# Altium schematic symbol library Diodes.SchLib: 14 symbols
Pins are listed as number, name and electrical type; pins without a type are passive.

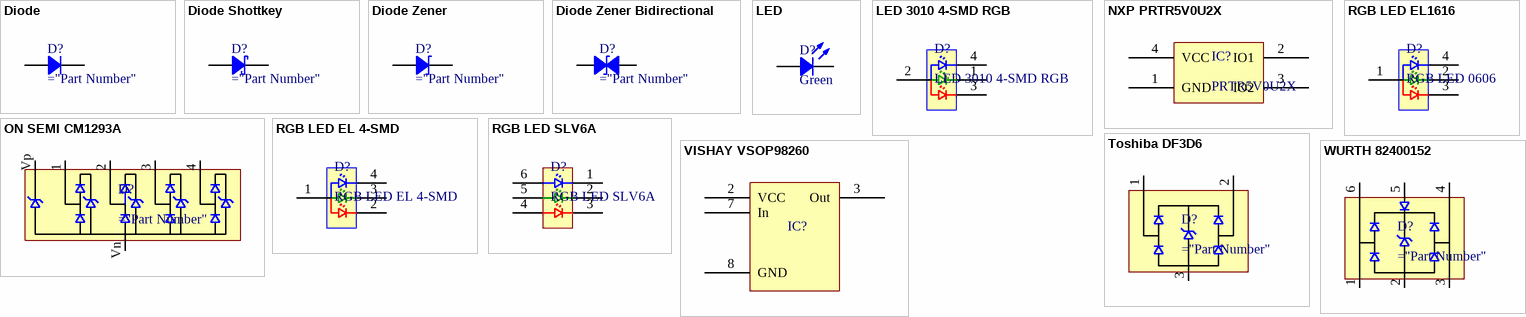
[diagram p0: symbols Diode to WURTH 82400152]

## Diode
designator D?
Rectifier Diode
pins: 1, 2

## Diode Shottkey
designator D?
Zener Diode
pins: 1, 2

## Diode Zener
designator D?
Zener Diode
pins: 1, 2

## Diode Zener Bidirectional
designator D?
Bidirectional Zener Diode
pins: 1, 2

## LED
designator D?, comment Green
Chip LED; Value: Green
pins: 1, 2

## LED 3010 4-SMD RGB
designator D?
Red, Green, Blue (RGB) 624nm Red, 525nm Green, 470nm Blue
pins: 1, 2, 3, 4

## NXP PRTR5V0U2X
designator IC?, comment PRTR5V0U2X
Ultra low capacitance double rail-to-rail ESD protection diode
pins: 1 GND, 2 IO1, 3 IO2, 4 VCC

## ON SEMI CM1293A
designator D?
4-Channel / Low Capacitance ESD Protection Array
pins: 1 A1, 2, 3, 4, Vn, Vp

## RGB LED EL1616
designator D?, comment RGB LED 0606
Everlight 0606 (1616)
pins: 1, 2, 3, 4

## RGB LED EL 4-SMD
designator D?
Red, Green, Blue (RGB) 624nm Red, 525nm Green, 470nm Blue
pins: 1, 2, 3, 4

## RGB LED SLV6A
designator D?
Cree SLV6A
pins: 1 C1, 2 C2, 3 C3, 4 A3, 5 A2, 6 A1

## Toshiba DF3D6
designator D?
4-Channel / Low Capacitance ESD Protection Array
pins: 1, 2, 3

## VISHAY VSOP98260
designator IC?
Ultra low capacitance double rail-to-rail ESD protection diode
pins: 2 VCC, 3 Out, 7 In, 8 GND

## WURTH 82400152
designator D?
4-Channel / Low Capacitance ESD Protection Array
pins: 1 A1, 2, 3, 4, 5, 6